# EAGLE library part VOCORE_V10A (library vocore)
VoCore module footprint, revision 1.0a Based on: http://vonger.cn/wp-content/uploads/2014/06/VoCore.v1.0a.pcb_.pdf Found a bug? Get in touch or send a pull request at https://github.com/omerk/vocore-evk
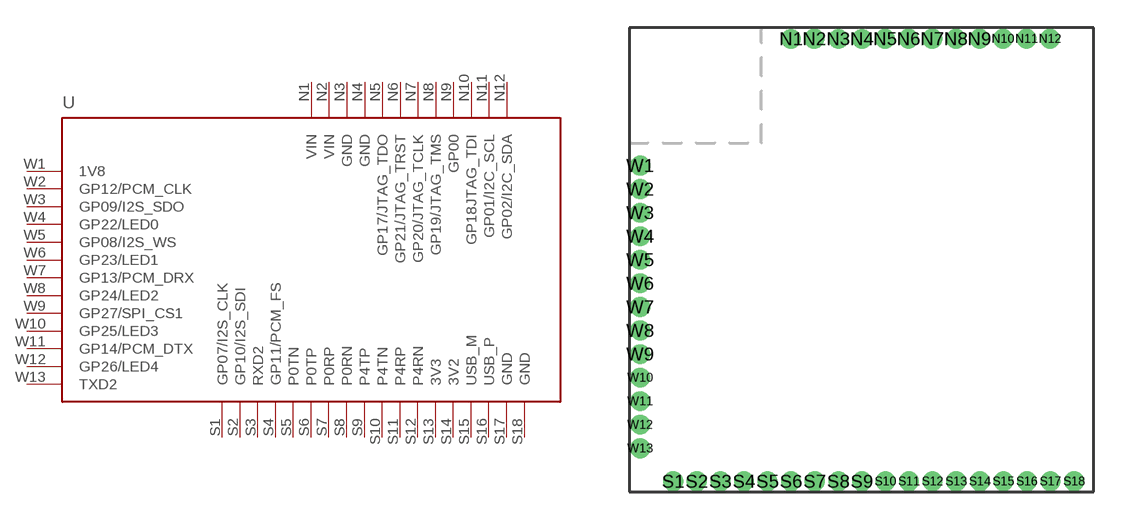
[diagram p0: symbol with the pads of VOCORE_V10A; footprint VOCORE_V10A]

Designator prefix -

## VOCORE_V10A  [VOCORE_V10A]
N1  VIN  pwr
N2  VIN  pwr
N3  GND  pwr
N4  GND  pwr
N5  GP17/JTAG_TDO
N6  GP21/JTAG_TRST
N7  GP20/JTAG_TCLK
N8  GP19/JTAG_TMS
N9  GP00
N10  GP18JTAG_TDI
N11  GP01/I2C_SCL
N12  GP02/I2C_SDA
S1  GP07/I2S_CLK
S2  GP10/I2S_SDI
S3  RXD2
S4  GP11/PCM_FS
S5  P0TN
S6  P0TP
S7  P0RP
S8  P0RN
S9  P4TP
S10  P4TN
S11  P4RP
S12  P4RN
S13  3V3
S14  3V2
S15  USB_M
S16  USB_P
S17  GND  pwr
S18  GND  pwr
W1  1V8  pwr
W2  GP12/PCM_CLK
W3  GP09/I2S_SDO
W4  GP22/LED0
W5  GP08/I2S_WS
W6  GP23/LED1
W7  GP13/PCM_DRX
W8  GP24/LED2
W9  GP27/SPI_CS1
W10  GP25/LED3
W11  GP14/PCM_DTX
W12  GP26/LED4
W13  TXD2

## Footprint VOCORE_V10A (pad centres in mm)
drill 0.55 pad 0.906: N1 -3.788,11.909; N2 -2.541,11.912; N3 -1.248,11.909; N4 0.022,11.909; N5 1.269,11.912; N6 2.539,11.912; N7 3.809,11.912; N8 5.079,11.912; N9 6.349,11.912; N10 7.619,11.912; N11 8.889,11.912; N12 10.159,11.912; S1 -10.138,-11.941; S2 -8.868,-11.941; S3 -7.598,-11.941; S4 -6.328,-11.941; S5 -5.058,-11.941; S6 -3.788,-11.941; S7 -2.518,-11.941; S8 -1.248,-11.941; S9 0.022,-11.941; S10 1.292,-11.941; S11 2.562,-11.941; S12 3.832,-11.941; S13 5.102,-11.941; S14 6.372,-11.941; S15 7.642,-11.941; S16 8.912,-11.941; S17 10.182,-11.941; S18 11.452,-11.941; W1 -11.916,5.077; W2 -11.916,3.807; W3 -11.916,2.537; W4 -11.916,1.267; W5 -11.916,-0.003; W6 -11.916,-1.273; W7 -11.916,-2.543; W8 -11.916,-3.813; W9 -11.916,-5.083; W10 -11.916,-6.353; W11 -11.916,-7.623; W12 -11.916,-8.893; W13 -11.916,-10.163